# Altium footprint library Heatsinks.PcbLib: 7 footprints
Each footprint in its own frame and in the unit in brackets; x right, y up, seen from the top. Pads: shape width x height; smd on the part's side, far side on the other; paste and mask are expansions set on the pad; w line width, h text height; cw(c..) or ccw(c..) is an arc to the next point about the centre after c.
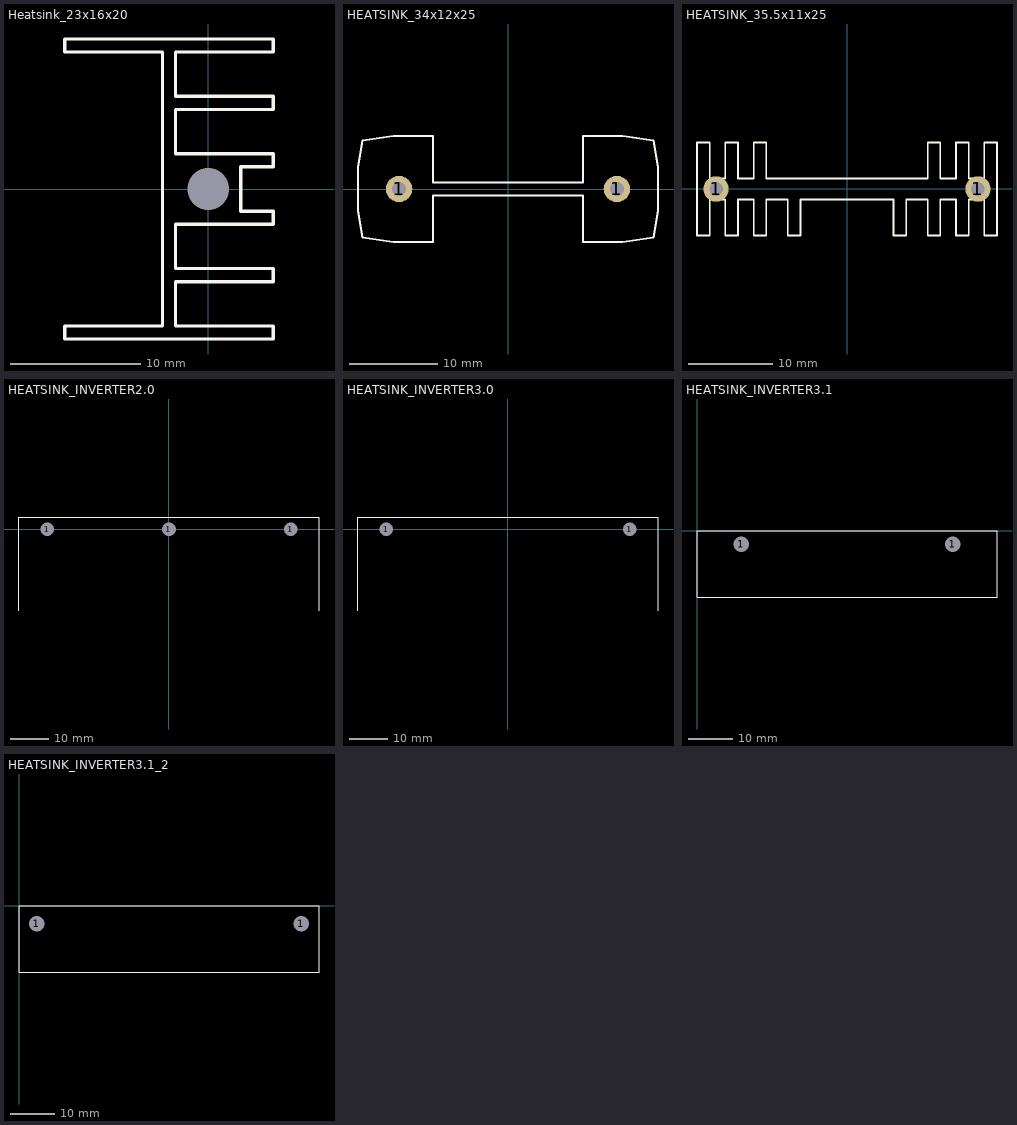
[diagram p0: the footprints below, top view; thin cyan lines are the x and y axes]

## Heatsink_23x16x20 [mm]
height 20
pads (1):
  round 0 / inner round 0 / far side round 4.5 hole 3.2 unplated: 1(0,0)
Top Overlay:
  lines w0.254: -11,-11.5 -11,-10.5 -3.5,-10.5 -3.5,10.5 -11,10.5 -11,11.5 5,11.5 5,10.5 -2.5,10.5 -2.5,7.1 5,7.1 5,6.1 -2.5,6.1 -2.5,2.7 5,2.7 5,1.7 2.5,1.7 2.5,-1.7 5,-1.7 5,-2.7 -2.5,-2.7 -2.5,-6.1 5,-6.1 5,-7.1 -2.5,-7.1 -2.5,-10.5 5,-10.5 5,-11.5 -11,-11.5
3D body: height 20, standoff 0, extent -11,10.5 -3.5,11.5
3D body: height 20, standoff 0, extent -3.5,-11.5 -2.5,11.5
3D body: height 20, standoff 0, extent -2.5,10.5 5,11.5
3D body: height 20, standoff 0, extent -2.5,6.1 5,7.1
3D body: height 20, standoff 0, extent -2.5,1.7 5,2.7
3D body: height 20, standoff 0, extent -2.5,-2.7 5,-1.7
3D body: height 20, standoff 0, extent -2.5,-7.1 5,-6.1
3D body: height 20, standoff 0, extent -2.5,-11.5 5,-10.5
3D body: height 20, standoff 0, extent -11,-11.5 -3.5,-10.5
3D body: height 20, standoff 0, extent -2.5,-1.7 2.5,1.7

## HEATSINK_34x12x25 [mm]
height 25
pads (2):
  round 3 hole 1.6: 1(-12.35,0) 1(12.35,0)
Top Overlay:
  lines w0.2: -17,-2.5 -16.5,-5.5 -13,-6 -8.5,-6 -8.5,-0.75 0,-0.75 8.5,-0.75 8.5,-6 13,-6 16.5,-5.5 17,-2.5 17,0 17,2.5 16.5,5.5 13,6 8.5,6 8.5,0.75 0,0.75 -8.5,0.75 -8.5,6 -13,6 -16.5,5.5 -17,2.5 -17,0 -17,-2.5
3D body: height 0, standoff -2.5, extent -12.995,-0.649 -11.7,0.649
3D body: height 25, standoff 0, extent -14.25,-0.75 0,0.75
3D body: height 25, standoff 0, extent -9.5,-6 -8.5,6
3D body: height 25, standoff 0, extent -17,-6 -9.5,0
3D body: height 25, standoff 0, extent -17,0 -9.5,6
3D body: height 25, standoff 0, extent 9.5,-6 17,0
3D body: height 25, standoff 0, extent 9.5,0 17,6
3D body: height 25, standoff 0, extent 8.5,-6 9.5,6
3D body: height 25, standoff 0, extent 0,-0.75 14.25,0.75
3D body: height 0, standoff -2.5, extent 11.7,-0.649 12.995,0.649

## HEATSINK_35.5x11x25 [mm] "Molex Modular Jack with 4 terminals (TJ3-4P4C)"
height 25
pads (2):
  round 3 hole 1.6: 1(-15.5,0) 1(15.5,0)
Top Overlay:
  lines w0.2: -17.75,-5.5 -16.25,-5.5 -16.25,-1.25 -14.4,-1.25 -14.4,-5.5 -12.9,-5.5 -12.9,-1.25 -11.05,-1.25 -11.05,-5.499 -9.55,-5.499 -9.55,-1.25 -7,-1.25 -7,-5.499 -5.5,-5.499 -5.5,-1.25 5.5,-1.25 5.5,-5.499 7,-5.499 7,-1.25 9.55,-1.25 9.55,-5.499 11.05,-5.499 11.05,-1.25 12.9,-1.25 12.9,-5.5 14.4,-5.5 14.4,-1.25 16.25,-1.25 16.25,-5.5 17.75,-5.5 17.75,5.5 16.25,5.5 16.25,1.25 14.4,1.25 14.4,5.5 12.9,5.5 12.9,1.25 11.05,1.25 11.05,5.499 9.55,5.499 9.55,1.25 -9.55,1.25 -9.55,5.499 -11.05,5.499 -11.05,1.25 -12.9,1.25 -12.9,5.5 -14.4,5.5 -14.4,1.25 -16.25,1.25 -16.25,5.5 -17.75,5.5 -17.75,-5.5
3D body: height 25, standoff 0, extent 5.5,-5.499 7,-1.25
3D body: height 25, standoff 0, extent -7,-5.499 -5.5,-1.25
3D body: height 25, standoff 0, extent 16.25,-5.5 17.75,5.5
3D body: height 25, standoff 0, extent 12.9,-5.5 14.4,5.5
3D body: height 25, standoff 0, extent 9.55,-5.501 11.05,5.499
3D body: height 25, standoff 0, extent -11.05,-5.501 -9.55,5.499
3D body: height 25, standoff 0, extent -14.4,-5.5 -12.9,5.5
3D body: height 25, standoff 0, extent -17.75,-5.5 -16.25,5.5
3D body: height 25, standoff 0, extent -17.7,-1.25 17.75,1.25
3D body: height 0, standoff -2.5, extent -16.145,-0.649 -14.85,0.649
3D body: height 0, standoff -2.5, extent 14.855,-0.649 16.15,0.649

## HEATSINK_INVERTER2.0 [mm] "Радиатор для охлаждения симистора инвертора"
height 50
pads (3):
  round 3 hole 3.5 unplated: 1(-31.5,0) 1(0,0) 1(31.5,0)
Top Overlay:
  lines w0.2: -38.8,-21 -38.8,3.1 38.8,3.1 38.8,-21
3D body "Heatsink_AB0099_50х90х26_Inverter_mod.STEP": height 48, standoff 0, extent -38.7,-23 38.7,3

## HEATSINK_INVERTER3.0 [mm] "Heatsink for Inverter_pmu_v2.0_77.4x26x26mm (Custom)"
height 50
pads (2):
  round 3 hole 3.5 unplated: 1(-31.5,0) 1(31.5,0)
Top Overlay:
  lines w0.2: -38.8,-21 -38.8,3.1 38.8,3.1 38.8,-21
3D body "New_radiator_for_inverter_2.0.STEP": height 26, standoff 0, extent -38.7,-23 38.7,3

## HEATSINK_INVERTER3.1 [mm] "Heatsink for Inverter_pmu_v3.1_68x15x33mm (Custom)"
height 33
pads (2):
  round 3 hole 3.5 unplated: 1(10,-3) 1(58,-3)
Top Overlay:
  lines w0.2: 0,-14.986 0,0 68,0 68,-14.986 0,-14.986
3D body "Heatsink for Inverter_pmu_v3.1.STEP": height 33, standoff 0, extent 0,-15 68,0

## HEATSINK_INVERTER3.1_2 [mm] "Heatsink for Inverter_pmu_v3.1_68x15x33mm (Custom)"
height 33
pads (2):
  round 3 hole 3.5 unplated: 1(4,-4) 1(64,-4)
Top Overlay:
  lines w0.2: 0,-14.986 0,0 68,0 68,-14.986 0,-14.986
3D body "Heatsink for Inverter_pmu_v3.1_2.STEP": height 33, standoff 0, extent 0,-15 68,0